# Altium schematic symbol library PMEG060V050EPDZ.Schlib: 1 symbol
Pins are listed as number, name and electrical type; pins without a type are passive.

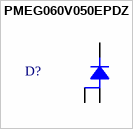
[diagram p0: symbol PMEG060V050EPDZ]

## PMEG060V050EPDZ
designator D?
AEC-Q101 Qualified Schottky Diode
pins: 1, 2, 3